# EAGLE library part LM324 (library __MyCommonLib1)
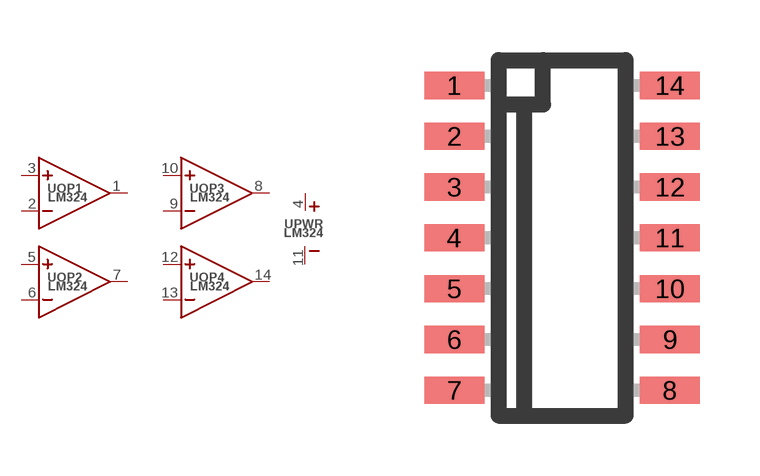
[diagram p0: symbol with the pads of SOIC14; footprint SOIC14]

Designator prefix -; gates OP1=OP_AMP OP2=OP_AMP OP3=OP_AMP OP4=OP_AMP PWR=IC_POWER_SUPPLY

## LM324  [SOIC14]
1  OP1:OUT  out
2  OP1:IN-  in
3  OP1:IN+  in
4  PWR:VCC  pwr
5  OP2:IN+  in
6  OP2:IN-  in
7  OP2:OUT  out
8  OP3:OUT  out
9  OP3:IN-  in
10  OP3:IN+  in
11  PWR:GND  pwr
12  OP4:IN+  in
13  OP4:IN-  in
14  OP4:OUT  out

## Footprint SOIC14 (pad centres in mm)
smd 1.5 x 0.68: 1 -2.699,3.81; 2 -2.699,2.54; 3 -2.699,1.27; 4 -2.699,0; 5 -2.699,-1.27; 6 -2.699,-2.54; 7 -2.699,-3.81; 8 2.699,-3.81; 9 2.699,-2.54; 10 2.699,-1.27; 11 2.699,0; 12 2.699,1.27; 13 2.699,2.54; 14 2.699,3.81